# Altium footprint library DFN - DualFlatNo-lead.PcbLib: 1 footprints
Each footprint in its own frame and in the unit in brackets; x right, y up, seen from the top. Pads: shape width x height; smd on the part's side, far side on the other; paste and mask are expansions set on the pad; w line width, h text height; cw(c..) or ccw(c..) is an arc to the next point about the centre after c.
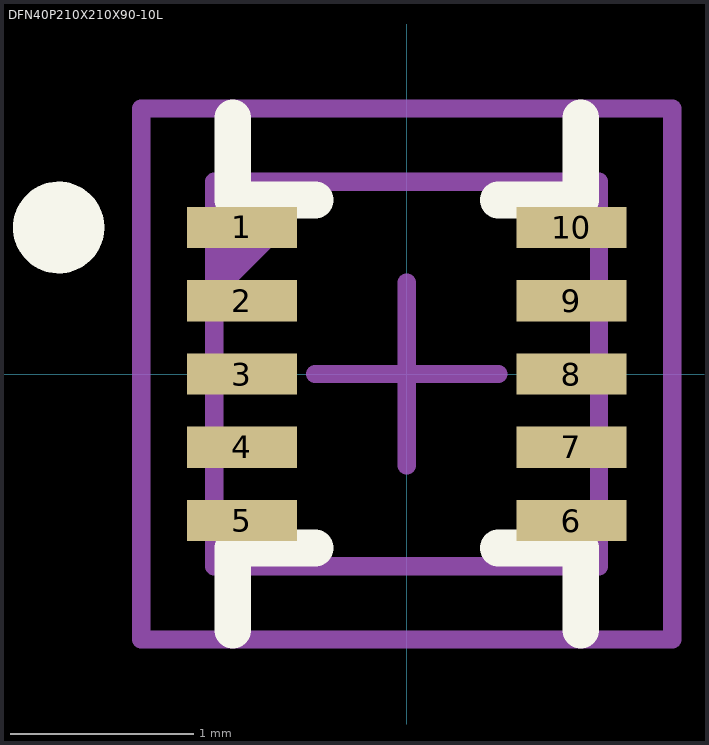
[diagram p0: the footprint, top view; thin cyan lines are the x and y axes]

## DFN40P210X210X90-10L [mm] "DFN, 10-Leads, Body 2.1x2.1mm (max), Pitch 0.40mm, IPC High Density"
height 0.9
pads (10):
  rect 0.6x0.225 smd: 1(-0.9,0.8) 2(-0.9,0.4) 3(-0.9,0) 4(-0.9,-0.4) 5(-0.9,-0.8) 6(0.9,-0.8) 7(0.9,-0.4) 8(0.9,0) 9(0.9,0.4) 10(0.9,0.8)
Top Overlay:
  circle w0.25: c-1.9,0.8 r0.125
  lines w0.2: -0.95,-1.4 -0.95,-0.95 -0.5,-0.95 ; -0.95,1.4 -0.95,0.95 -0.5,0.95 ; 0.5,-0.95 0.95,-0.95 0.95,-1.4 ; 0.5,0.95 0.95,0.95 0.95,1.4
TopBody:
  lines w0.1: -1.05,0.45 -0.75,0.75 -1.05,1.05 ; -1.05,0.55 -0.85,0.75 -1.05,0.95 ; -1.05,0.65 -0.95,0.75 -1.05,0.85 ; -1.05,1.05 -1.05,-1.05 1.05,-1.05 1.05,1.05 -1.05,1.05
TopCourtyard:
  lines w0.1: -0.5,0 0,0 ; 0,-0.5 0,0 ; 0,0.5 0,0 ; 0.5,0 0,0 ; -1.45,-1.45 -1.45,1.45 1.45,1.45 1.45,-1.45 -1.45,-1.45
3D body: height 0.9, standoff 0, extent -1.05,-1.05 1.05,1.05